# Altium schematic symbol library ERA-6ARB133V.SchLib: 1 symbol
Pins are listed as number, name and electrical type; pins without a type are passive.

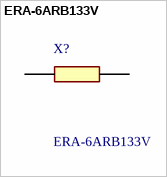
[diagram p0: symbol ERA-6ARB133V]

## ERA-6ARB133V
designator X?
Thin Film Resistors - SMD 0805 13Kohm 0.1% 10ppm AEC-Q200; Manufacturer_Name: Panasonic; Geometry.Height: 0.6mm; Mouser Part Number: 667-ERA-6ARB133V; Mouser Price/Stock: https://www.mouser.co.uk/ProductDetail/Panasonic/ERA-6ARB133V?qs=ob%252BdNz2%252BYEhk1GhxD16oXg%3D%3D; Manufacturer_Part_Number: ERA-6ARB133V; Datasheet Link: https://industrial.panasonic.com/cdbs/www-data/pdf/RDM0000/AOA0000C307.pdf
footprint ERA6AEB1020V
pins: 1, 2